# Altium schematic symbol library HSBNE-Vend.SchLib: 25 symbols
Pins are listed as number, name and electrical type; pins without a type are passive.

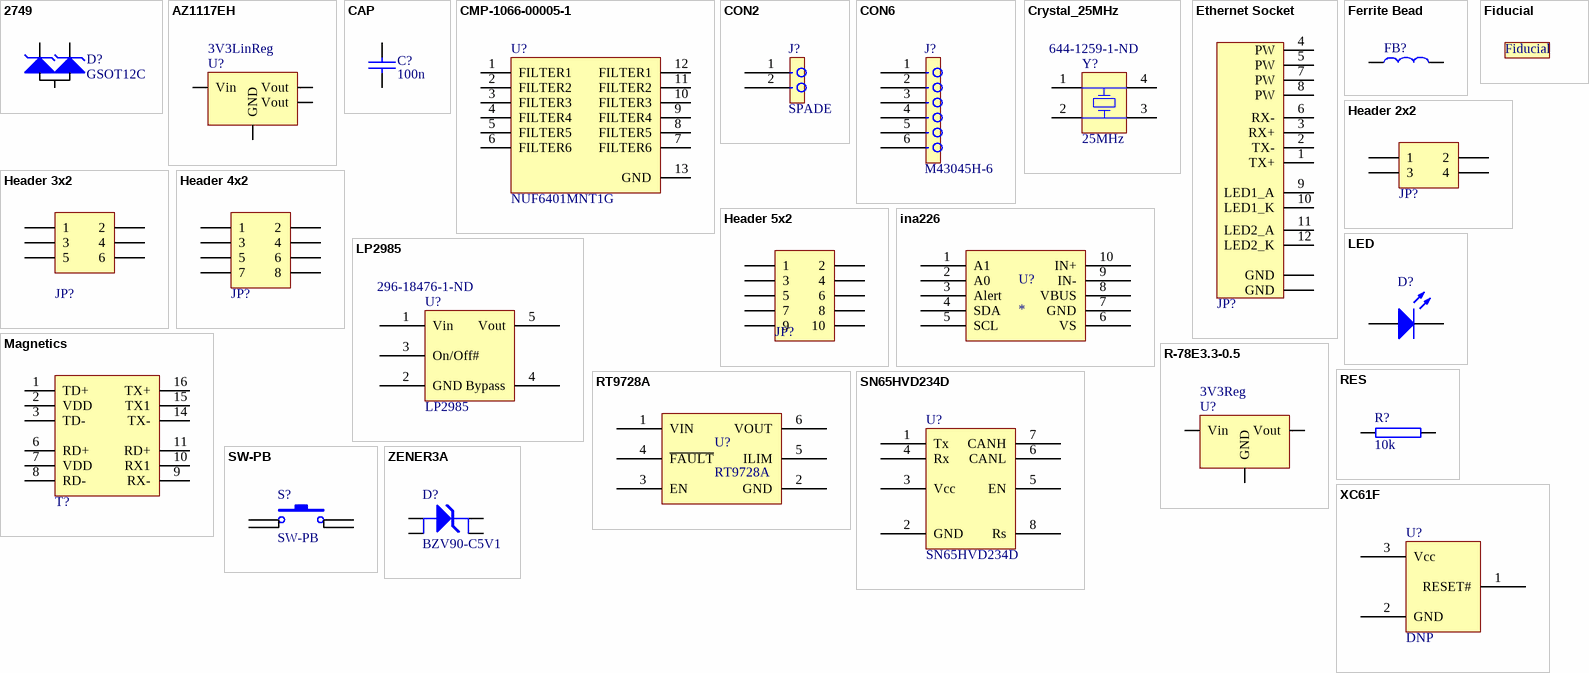
[diagram p0: symbols 2749 to ZENER3A]

## 2749
designator D?, comment GSOT12C
DIO GSOT12C ESD 2LINE 12V SOT23; MPN: GSOT12C-E3-08; COST1K: 0.11250; COST10: 0.3750; COST100: 0.25000; MAN: Vishay Semiconductor Diodes Division; SPN: GSOT12C-E3-08DKR-ND; Supplier: Digi-Key
footprint SOT-23 - ESD
pins: 1 K1, 2 K2, 3 A

## AZ1117EH
designator U?, comment 3V3LinReg
Reg 1A 3V3 OUT SIP VERT; Supplier 1: Digi-Key; Supplier Part Number 1: AZ1117EH-3.3TRG1DICT-ND
footprint SOT-223
pins: 1 GND (power), 2 Vout (power), 3 Vin (power), 4 Vout (power)

## CAP
designator C?, comment 100n
100nF 16V X7R 10%; CID: 238; CID2: 238; CID3: 238
footprint 0805
footprint 0402
footprint 0603
footprint 1206
pins: 1, 2

## CMP-1066-00005-1
designator U?, comment NUF6401MNT1G
6-Channel EMI Filter with Integrated ESD Protection, -40 to 105 degC, 12-Pin DFN, Pb-Free, Tape and Reel; Manufacturer: On Semiconductor; Number of Lines: 6; VRWM Max (V): 5; V(BR) Typ (V): 7; PackageReference: DFN-12-506AD-01; PartNumber: NUF6401MNT1G; ComponentLink3Description: Package Specification; RoHS: Pb-Free; Mounting Technology: Surface Mount; ComponentLink2Description: Datasheet; ComponentLink1Description: Manufacturer URL; PackageDescription: 12-Pin Small Outline No-Lead, Body 3 x 1.35 mm, Pitch 0.5 mm; Packing: Tape and Reel; DatasheetVersion: Rev. 2; ComponentLink2URL: http://www.onsemi.com/pub_link/Collateral/NUF6401-D.PDF; PackageVersion: Rev. J, 07/2008; ComponentLink3URL: http://www.onsemi.com/pub_link/Collateral/506AD.PDF; ComponentLink1URL: http://www.onsemi.com/; Supplier 1: Digi-Key; Supplier Part Number 1: NUF6401MNT1GOSCT-ND
footprint ONSC-DFN-12-506AD-01_V (SON, 12-Leads, Body 3x1.35mm, Pitch 0.5mm, Thermal Pad 2.352x0.351mm)
pins: 1 FILTER1 "Filter + ESD Channel 1", 2 FILTER2 "Filter + ESD Channel 2", 3 FILTER3 "Filter + ESD Channel 3", 4 FILTER4 "Filter + ESD Channel 4", 5 FILTER5 "Filter + ESD Channel 5", 6 FILTER6 "Filter + ESD Channel 6", 7 FILTER6 "Filter + ESD Channel 6", 8 FILTER5 "Filter + ESD Channel 5", 9 FILTER4 "Filter + ESD Channel 4", 10 FILTER3 "Filter + ESD Channel 3", 11 FILTER2 "Filter + ESD Channel 2", 12 FILTER1 "Filter + ESD Channel 1", 13 GND (power) "Ground"

## CON2
designator J?, comment SPADE
6.35mm right-angle 90° male spade terminal PCB mount; CID: 643; CID2: 643; CID3: 643
footprint M5569-2
footprint SPADE-6.35-RA
footprint 1X2
pins: 1, 2

## CON6
designator J?, comment M43045H-6
CID: 317
footprint M43045H-6
pins: 1, 2, 3, 4, 5, 6

## Crystal_25MHz
designator Y?, comment Supplier Part Number 1: 644-1259-1-ND  (hidden comment: 25MHz)
Surface Mount Quartz Crystal; Note: PCB layout complies with manufacturer's recommendation.; Published: 17-Jul-2002; DatasheetDocument: 28-Aug-2001; PackageDocument: 28-Aug-2001; PackageReference: 91SMX; Publisher: Altium Limited; ComponentLink1Description: Manufacturer Link; ComponentLink1URL: http://www.cmac.com/mt/; ComponentLink2Description: Datasheet; ComponentLink2URL: http://www.cmac.com/mt/databook/crystals/smd/90_91_smx.pdf; Supplier 1: Digi-Key; Value: 25MHz
footprint Crystal 3.2x2.5
pins: 1 OSC1, 2 OSC2, 3 OSC2, 4 OSC1

## Ethernet Socket
designator JP?, comment RJ45  (value not drawn)
Ethernet Socket RJ45 With Leds; Supplier 1: Digi-Key; Supplier 2: Mouser; Supplier Part Number 1: RJHSE-5384-ND; Supplier Part Number 2: 523-RJHSE-5484
footprint RJHSE-5484
pins: 1 TX+, 2 TX-, 3 RX+, 4 PW, 5 PW, 6 RX-, 7 PW, 8 PW, 9 LED1_A, 10 LED1_K, 11 LED2_A, 12 LED2_K, GND1 GND, GND2 GND

## Ferrite Bead
designator FB?  (value not drawn)
Value: HH-1M1608-121JT; Published: 8-Jun-2000; LatestRevisionDate: 29-May-2009; LatestRevisionNote: IPC-7351 Footprint Added.; PackageReference: J1-0603; Publisher: Altium Limited; PackageDescription: Chip Resistor; Supplier 1: Digi-Key; Supplier 2: Mouser; Supplier Part Number 1: 445-8676-1-ND; Supplier Part Number 2: 810-MMZ1608F030B
simulation model RESISTOR (Resistor)
footprint 0603
pins: 1, 2

## Fiducial
designator FD?  (value not drawn)
Fiducial
footprint FD

## Header 2x2
designator JP?, comment Header 2x2 2.54mm  (value not drawn)
Header, 4-Pin; Supplier 1: Farnell; Supplier Part Number 1: 1593440
footprint 2X2
pins: 1, 2, 3, 4

## Header 3x2
designator JP?, comment Header 3x2 2.54mm  (value not drawn)
Header, 6-Pin; Supplier 1: Digi-Key; Supplier 2: Mouser; Supplier Part Number 1: 952-1788-ND; Supplier Part Number 2: 855-M20-9980446
footprint 2X3
pins: 1, 2, 3, 4, 5, 6

## Header 4x2
designator JP?, comment Header 4x2 2.54mm  (value not drawn)
Header, 8-Pin; Supplier 1: Digi-Key; Supplier 2: Mouser; Supplier Part Number 1: 952-1788-ND; Supplier Part Number 2: 855-M20-9980446
footprint 2X4
pins: 1, 2, 3, 4, 5, 6, 7, 8

## Header 5x2
designator JP?, comment Header 5x2 2.54mm  (value not drawn)
Header, 10-Pin; Supplier 1: Farnell; Supplier Part Number 1: 1593440
footprint 2X5
footprint SOP10
pins: 1, 2, 3, 4, 5, 6, 7, 8, 9, 10

## ina226
designator U?
ina226; Supplier 1: Digi-Key; Supplier Part Number 1: 296-29034-1-ND
footprint SP10
pins: 1 A1, 2 A0, 3 Alert, 4 SDA, 5 SCL, 6 VS, 7 GND, 8 VBUS, 9 IN-, 10 IN+

## LED
designator D?  (value not drawn)
Typical RED, GREEN, YELLOW, AMBER GaAs LED; Published: 8-Jun-2000; LatestRevisionDate: 17-Jul-2002; LatestRevisionNote: Re-released for DXP Platform.; PackageVersion: Feb-2002; PackageReference: 3.2X1.6X1.1; Publisher: Altium Limited; PackageDescription: SM LED; 2 Flat Leads; Supplier 1: Digi-Key; Supplier 2: Mouser; Supplier Part Number 1: 475-1409-1-ND; Supplier Part Number 2: 720-LGQ971-KN-1
footprint 3.2X1.6X1.1 (SMT LED; 2 Flat Leads)
simulation model LED2 (Diode)
footprint LED-0603
pins: 1 A, 2 K

## LP2985
designator U?  Supplier Part Number 1: 296-18476-1-ND
Micropower LDO 150mA linear regulator; Supplier 1: Digi-Key
footprint SOT23-5
pins: 1 Vin, 2 GND, 3 On/Off#, 4 Bypass, 5 Vout

## Magnetics
designator T?  (value not drawn)
PoE Magnetic Module; Published: 24-Mar-1999; LatestRevisionDate: 17-Jul-2002; LatestRevisionNote: Re-released for DXP Platform.; PackageReference: MODULE5B; Publisher: Altium Limited; Supplier 1: Mouser; Supplier Part Number 1: 673-H2260FNL
footprint HXXXX
pins: 1 TD+, 2 VDD, 3 TD-, 6 RD+, 7 VDD, 8 RD-, 9 RX-, 10 RX1, 11 RD+, 14 TX-, 15 TX1, 16 TX+

## R-78E3.3-0.5
designator U?, comment 3V3Reg
CONV DC/DC 1A 3V3 OUT SIP VERT; Supplier 1: Digi-Key; Supplier Part Number 1: 945-1661-5-ND
footprint R-78CXX (CONV DC/DC 1A 5V OUT SIP VERT)
pins: 1 Vin (power), 2 GND (power), 3 Vout (power)

## RES
designator R?, comment 10k
10k 0.1W 50V 1%; CID: 151; CID2: 151; CID3: 151
footprint 0805
footprint 0402
footprint 0603
footprint 1206
pins: 1, 2

## RT9728A
designator U?
Supplier 1: Digi-Key; Supplier Part Number 1: 1028-1198-1-ND
footprint SOT23-6
pins: 1 VIN, 2 GND, 3 EN, 4 ~{FAULT}, 5 ILIM, 6 VOUT

## SN65HVD234D
designator U?
Supplier 1: Digi-Key; Supplier Part Number 1: 296-27991-1-ND
footprint SO-8
pins: 1 Tx, 2 GND, 3 Vcc, 4 Rx, 5 EN, 6 CANL, 7 CANH, 8 Rs

## SW-PB
designator S?
Switch; Published: 24-Mar-1999; LatestRevisionDate: 17-Jul-2002; LatestRevisionNote: Re-released for DXP Platform.; PackageReference: SPST-2; Publisher: Altium Limited; PackageDescription: Switch; 2 Leads; Supplier 1: Digi-Key; Supplier 2: Mouser; Supplier Part Number 1: P12932SCT-ND; Supplier Part Number 2: 667-EVQ-Q2B03W
footprint TACTILE_SWITCH_SMD
pins: 1, 2, 3, 4

## XC61F
designator U?, comment DNP
Consider: CID 3412 (140ms delay); CID: 238; CID2: 238; CID3: 238
footprint SOT-23
footprint SOT23-3
pins: 1 RESET#, 2 GND, 3 Vcc

## ZENER3A
designator D?, comment BZV90-C5V1
Supplier 1: Digi-Key; Supplier Part Number 1: 568-6759-1-ND
footprint SOT-223
pins: A1, A2, K1, K2